# Altium schematic symbol library ESY476M050AE3AA.SchLib: 1 symbol
Pins are listed as number, name and electrical type; pins without a type are passive.

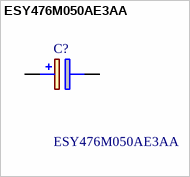
[diagram p0: symbol ESY476M050AE3AA]

## ESY476M050AE3AA
designator C?
ESY, Aluminum, Aluminum Electrolytic, 47 uF, 20%, 50 VDC, -40/+105C, 105C, -40C, 105C, 2,000 Hrs, 10 % , 150 mOhms, 23.5 uA, 2, 3, 6.3mm, 11mm, Lead Spacing = 2.5mm, 20mm, 10000; Manufacturer_Name: KEMET; Geometry.Height: 12.5mm; Mouser Part Number: 80-ESY476M050AE3AA; Mouser Price/Stock: https://www.mouser.co.uk/ProductDetail/KEMET/ESY476M050AE3AA?qs=gt1LBUVyoHnv7XQp2dzrVA%3D%3D; Manufacturer_Part_Number: ESY476M050AE3AA; Datasheet Link: https://content.kemet.com/datasheets/KEM_A4007_ESY.pdf
footprint CAPPRD250W50D630H1250
pins: 1 +, 2 -